# Altium integrated library INND-TS56YGCB.IntLib: 1 symbol
Pins are listed as number, name and electrical type; pins without a type are passive.

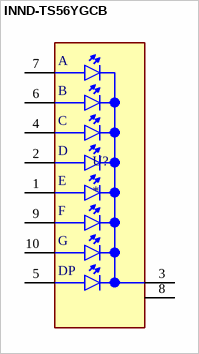
[diagram p0: symbol INND-TS56YGCB]

## INND-TS56YGCB
designator U?
Display Modules - LED Character and Numeric Yellow-Green 7-Segment 1 Character Common Cathode 2V 20mA 0.748 H x 0.496 W x 0.315 D (19.00mm x 12.60mm x 8.00mm) 10-DIP (0.600, 15.24mm); MF: Inolux; MP: INND-TS56YGCB; SnapEDA_Link: https://www.snapeda.com/parts/INND-TS56YGCB/Inolux/view-part/?ref=snap; Package: DIP-10 Inolux; Value: *; Check_prices: https://www.snapeda.com/parts/INND-TS56YGCB/Inolux/view-part/?ref=eda
footprint LED_INND-TS56YGCB
pins: 1 E, 2 D, 3 CC, 4 C, 5 DP, 6 B, 7 A, 8 CC, 9 F, 10 G